# Altium footprint library PMP12082_TID.PcbLib: 19 footprints (part 2 of 2)
Each footprint in its own frame and in the unit in brackets; x right, y up, seen from the top. Pads: shape width x height; smd on the part's side, far side on the other; paste and mask are expansions set on the pad; w line width, h text height; cw(c..) or ccw(c..) is an arc to the next point about the centre after c.
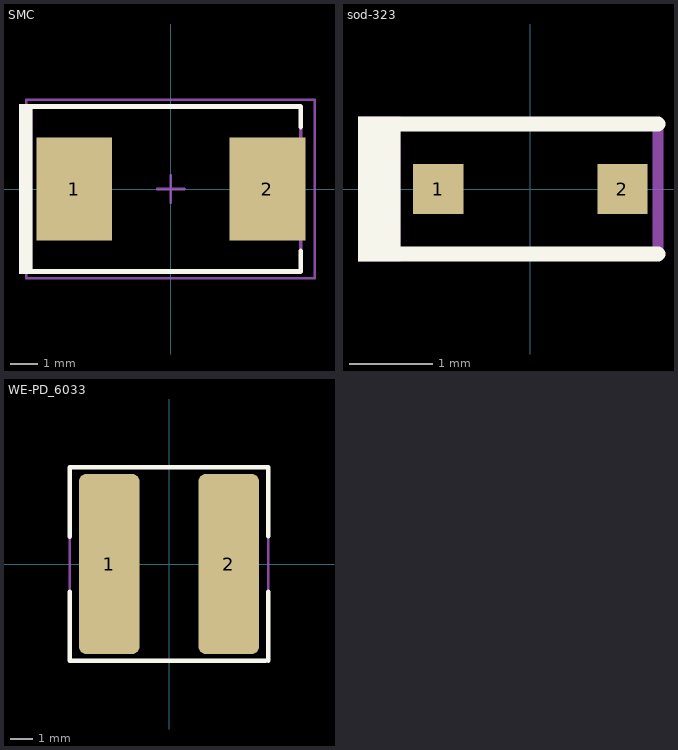
[diagram p1: the footprints below, top view; thin cyan lines are the x and y axes]

## SMC [mil]
pads (2):
  rect 110x150 smd: 1(-140.49,0) 2(140.49,0)
Top Overlay:
  rectangle: -221,-123.5 -201,123.5
  lines w7: -210,-120 189,-120 189,-90.25 ; -210,120 189,120 189,90.25
M5-Top Constraints:
  rectangle: -221,-123.5 -201,123.5
  lines w5: -210,-120 189,-120 189,120 -210,120
  text ".Designator" at -85,-20 h40
M15-Bottom Assembly:
  lines w3.94: -19.69,0 19.68,0 ; 0,-19.68 0,19.68 ; -210.46,-129.92 209.38,-129.92 209.38,129.92 -210.46,129.92 -210.46,-129.92
3D body "SMC_nominal.stp": height 91.35, standoff 0.6, extent -156.49,-116.13 156.5,116.15

## sod-323 [mm]
pads (2):
  rect 0.6x0.6 smd paste-0.05: 1(-1.1,0) 2(1.1,0)
Top Overlay:
  rectangle: -2.057,-0.864 -1.549,0.864
  lines w0.178: -1.803,-0.775 0.1,-0.775 1.525,-0.775 ; -1.803,0.775 0.1,0.775 1.525,0.775
M5-Top Constraints:
  rectangle: -2.057,-0.864 -1.549,0.864
  lines w0.127: -1.803,-0.775 0.1,-0.775 1.525,-0.775 1.525,0.775 0.1,0.775 -1.803,0.775
  text ".Designator" at -1.4,-0.275 h0.76
3D body "SOD-323.stp": height 1.1, standoff 0, extent -1.3,-0.675 1.3,0.675

## WE-PD_6033 [mm]
pads (2):
  rrect25% 2.7x8 smd: 1(-2.65,0) 2(2.65,0)
Top Overlay:
  lines w0.2: -4.4,-1.225 -4.4,-4.3 4.3,-4.3 ; -4.4,1.2 -4.4,4.3 4.4,4.3 4.4,1.225 ; 4.4,-4.3 4.4,-1.225
M5-Top Constraints:
  lines w0.1: -4.4,-4.3 4.4,-4.3 4.4,4.3 -4.4,4.3 -4.4,-4.3
  text ".Designator" at -1.9,-0.525 h1.02
3D body "SDR0805-100ML-BOURNS.x_b": height 5.31, standoff 0.01, extent -3.9,-3.9 3.9,3.9